# EAGLE library part HD-LTS2801AB (library LED displeje)
LED displej 7 mm
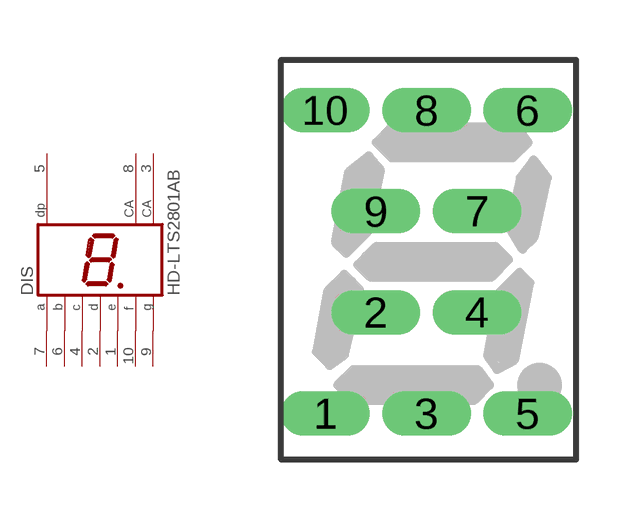
[diagram p2: symbol with the pads of HD10; footprint HD10]

Designator prefix DIS

## HD-LTS2801AB  [HD10]
1  E  pas
2  D  pas
3  CA  pas
4  C  pas
5  DP  pas
6  B  pas
7  A  pas
8  CA  pas
9  G  pas
10  F  pas

## Footprint HD10 (pad centres in mm)
drill 0.61 long: 1 -2.54,-3.81; 2 -1.27,-1.27; 3 0,-3.81; 4 1.27,-1.27; 5 2.54,-3.81; 6 2.54,3.81; 7 1.27,1.27; 8 0,3.81; 9 -1.27,1.27; 10 -2.54,3.81